# EAGLE library part LPC810M021JN8 (library LPC810)
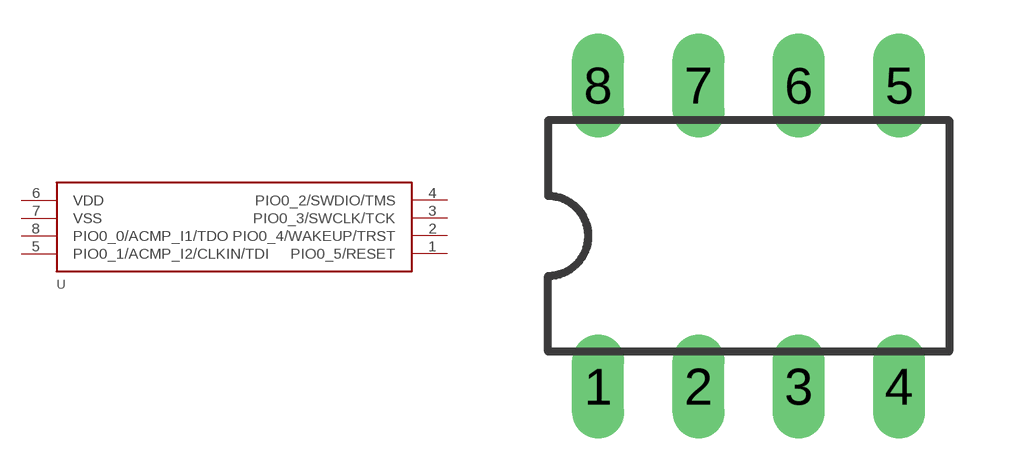
[diagram p1: symbol with the pads of DIL08; footprint DIL08]

Designator prefix -

## LPC810M021JN8  [DIL08]
1  PIO0_5/RESET
2  PIO0_4/WAKEUP/TRST
3  PIO0_3/SWCLK/TCK
4  PIO0_2/SWDIO/TMS
5  PIO0_1/ACMP_I2/CLKIN/TDI
6  VDD
7  VSS
8  PIO0_0/ACMP_I1/TDO

## Footprint DIL08 (pad centres in mm)
Dual In Line Package
drill 0.813 long: 1 -3.81,-3.81; 2 -1.27,-3.81; 3 1.27,-3.81; 4 3.81,-3.81; 5 3.81,3.81; 6 1.27,3.81; 7 -1.27,3.81; 8 -3.81,3.81